# EAGLE library part CP2102 (library usb-serial)
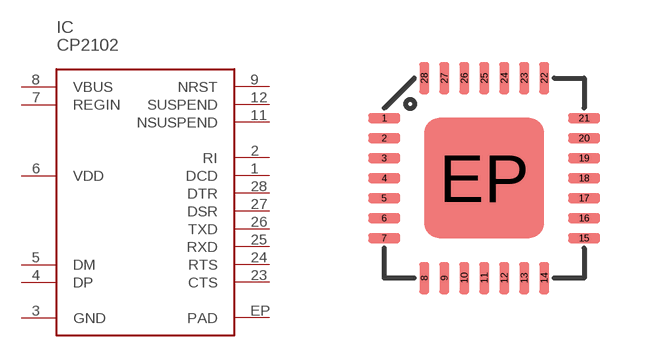
[diagram p0: symbol with the pads of QFN28; footprint QFN28]

Designator prefix IC

## CP2102  [QFN28]
1  DCD
2  RI
3  GND
4  DP
5  DM
6  VDD
7  REGIN
8  VBUS
9  NRST
11  NSUSPEND
12  SUSPEND
23  CTS
24  RTS
25  RXD
26  TXD
27  DSR
28  DTR
EP  PAD

## Footprint QFN28 (pad centres in mm)
smd 0.8 x 0.25: 1 -2.5,1.5; 2 -2.5,1; 3 -2.5,0.5; 4 -2.5,0; 5 -2.5,-0.5; 6 -2.5,-1; 7 -2.5,-1.5; 15 2.5,-1.5; 16 2.5,-1; 17 2.5,-0.5; 18 2.5,0; 19 2.5,0.5; 20 2.5,1; 21 2.5,1.5
smd 0.25 x 0.8: 8 -1.5,-2.5; 9 -1,-2.5; 10 -0.5,-2.5; 11 0,-2.5; 12 0.5,-2.5; 13 1,-2.5; 14 1.5,-2.5; 22 1.5,2.5; 23 1,2.5; 24 0.5,2.5; 25 0,2.5; 26 -0.5,2.5; 27 -1,2.5; 28 -1.5,2.5
smd 3 x 3: EP 0,0